# Altium footprint library Capacitor_SMD.PcbLib: 103 footprints (part 3 of 7)
Each footprint in its own frame and in the unit in brackets; x right, y up, seen from the top. Pads: shape width x height; smd on the part's side, far side on the other; paste and mask are expansions set on the pad; w line width, h text height; cw(c..) or ccw(c..) is an arc to the next point about the centre after c.
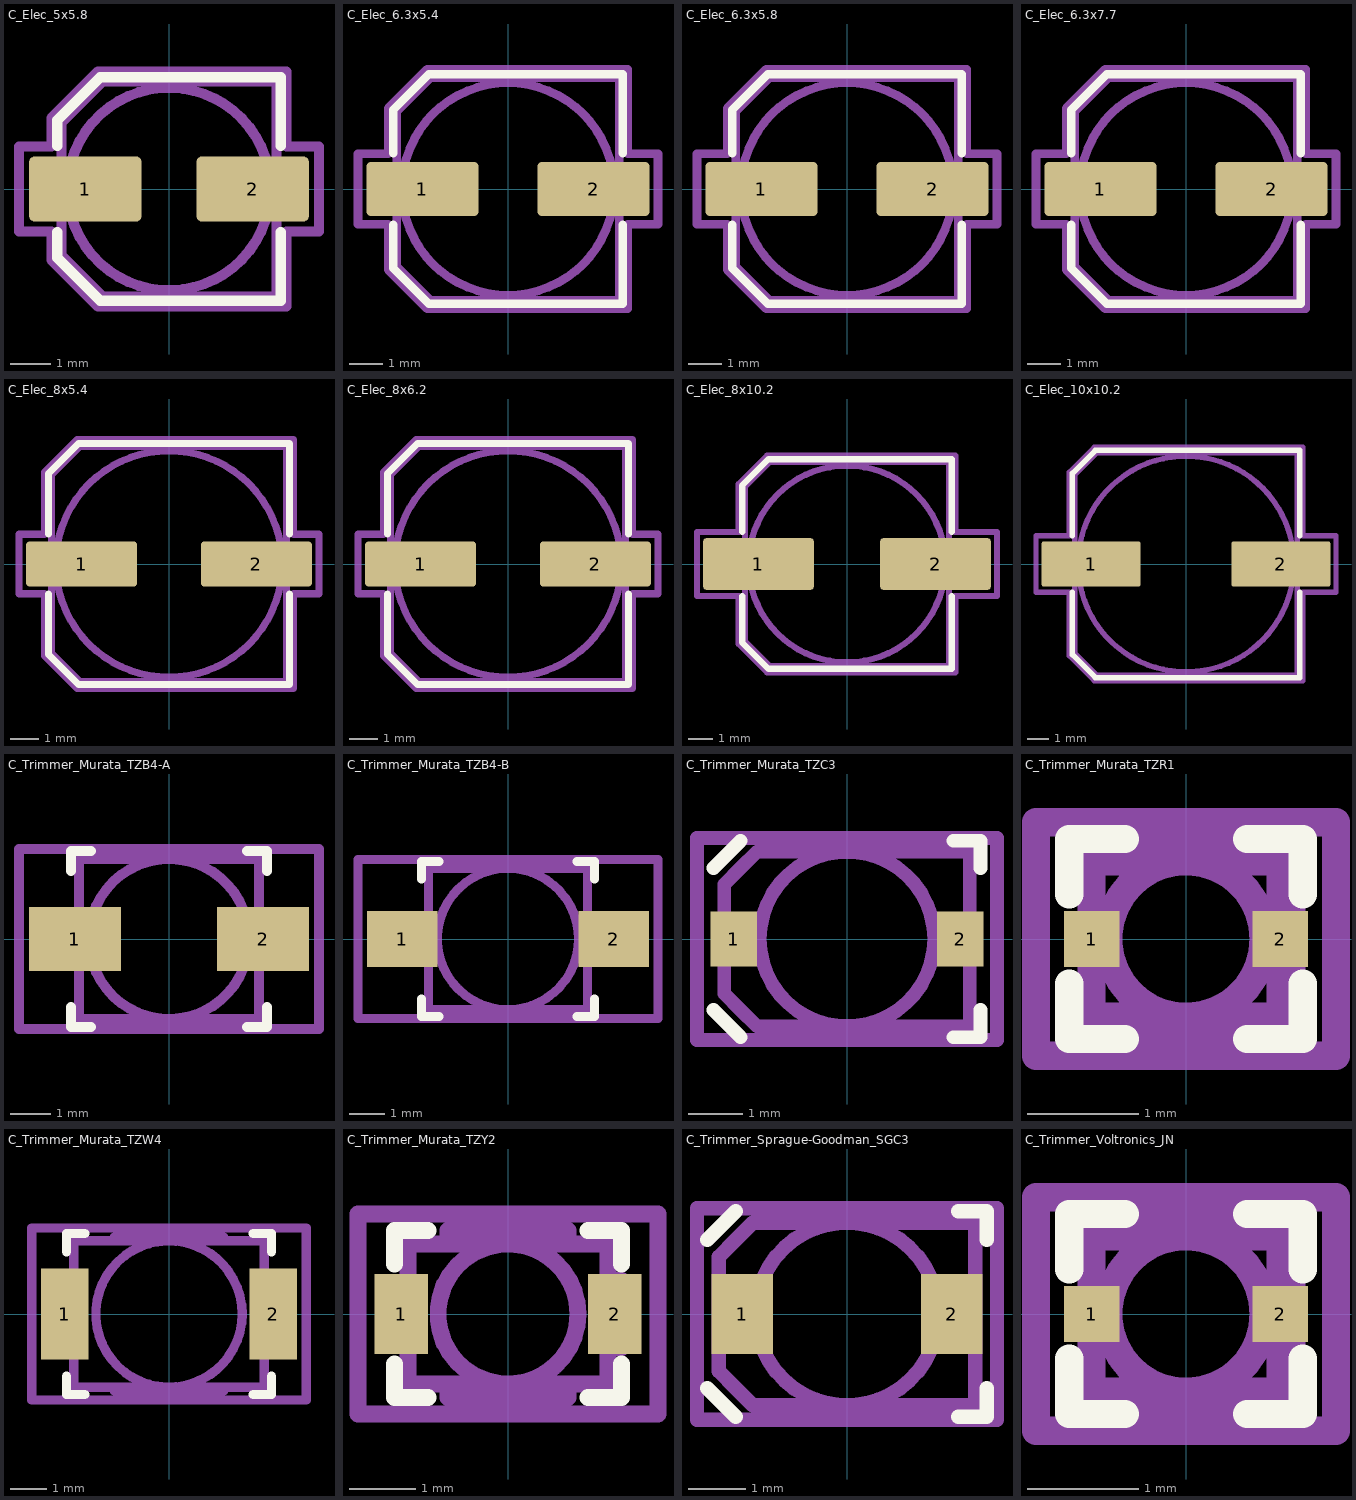
[diagram p2: the footprints below, top view; thin cyan lines are the x and y axes]

## C_Elec_5x5.8 [mm]
pads (2):
  rrect16% 2.775x1.6 smd: 1(-2.063,0) 2(2.063,0)
F.SilkS:
  lines w0.254: -2.76,-1.06 -2.76,-1.696 -1.696,-2.76 2.76,-2.76 2.76,-1.06 ; -2.76,1.06 -2.76,1.696 -1.696,2.76 2.76,2.76 2.76,1.06
F.CrtYd:
  lines w0.254: -3.7,-1.05 -3.7,1.05 -2.9,1.05 -2.9,1.75 -1.75,2.9 2.9,2.9 2.9,1.05 3.7,1.05 3.7,-1.05 2.9,-1.05 2.9,-2.9 -1.75,-2.9 -2.9,-1.75 -2.9,-1.05 -3.7,-1.05
F.Fab:
  circle w0.254: c0,0 r2.5
  lines w0.254: -2.65,-1.65 -2.65,1.65 -1.65,2.65 2.65,2.65 2.65,-2.65 -1.65,-2.65 -2.65,-1.65
  text "'.Designator'" at -4.047,-0.84 h1

## C_Elec_6.3x5.4 [mm]
pads (2):
  rrect16% 3.325x1.6 smd: 1(-2.538,0) 2(2.538,0)
F.SilkS:
  lines w0.254: -3.41,-1.06 -3.41,-2.346 -2.346,-3.41 3.41,-3.41 3.41,-1.06 ; -3.41,1.06 -3.41,2.346 -2.346,3.41 3.41,3.41 3.41,1.06
F.CrtYd:
  lines w0.254: -4.45,-1.05 -4.45,1.05 -3.55,1.05 -3.55,2.4 -2.4,3.55 3.55,3.55 3.55,1.05 4.45,1.05 4.45,-1.05 3.55,-1.05 3.55,-3.55 -2.4,-3.55 -3.55,-2.4 -3.55,-1.05 -4.45,-1.05
F.Fab:
  circle w0.254: c0,0 r3.15
  lines w0.254: -3.3,-2.3 -3.3,2.3 -2.3,3.3 3.3,3.3 3.3,-3.3 -2.3,-3.3 -3.3,-2.3
  text "'.Designator'" at -4.047,-0.84 h1

## C_Elec_6.3x5.8 [mm]
pads (2):
  rrect16% 3.325x1.6 smd: 1(-2.538,0) 2(2.538,0)
F.SilkS:
  lines w0.254: -3.41,-1.06 -3.41,-2.346 -2.346,-3.41 3.41,-3.41 3.41,-1.06 ; -3.41,1.06 -3.41,2.346 -2.346,3.41 3.41,3.41 3.41,1.06
F.CrtYd:
  lines w0.254: -4.45,-1.05 -4.45,1.05 -3.55,1.05 -3.55,2.4 -2.4,3.55 3.55,3.55 3.55,1.05 4.45,1.05 4.45,-1.05 3.55,-1.05 3.55,-3.55 -2.4,-3.55 -3.55,-2.4 -3.55,-1.05 -4.45,-1.05
F.Fab:
  circle w0.254: c0,0 r3.15
  lines w0.254: -3.3,-2.3 -3.3,2.3 -2.3,3.3 3.3,3.3 3.3,-3.3 -2.3,-3.3 -3.3,-2.3
  text "'.Designator'" at -4.047,-0.84 h1

## C_Elec_6.3x7.7 [mm]
pads (2):
  rrect16% 3.325x1.6 smd: 1(-2.538,0) 2(2.538,0)
F.SilkS:
  lines w0.254: -3.41,-1.06 -3.41,-2.346 -2.346,-3.41 3.41,-3.41 3.41,-1.06 ; -3.41,1.06 -3.41,2.346 -2.346,3.41 3.41,3.41 3.41,1.06
F.CrtYd:
  lines w0.254: -4.45,-1.05 -4.45,1.05 -3.55,1.05 -3.55,2.4 -2.4,3.55 3.55,3.55 3.55,1.05 4.45,1.05 4.45,-1.05 3.55,-1.05 3.55,-3.55 -2.4,-3.55 -3.55,-2.4 -3.55,-1.05 -4.45,-1.05
F.Fab:
  circle w0.254: c0,0 r3.15
  lines w0.254: -3.3,-2.3 -3.3,2.3 -2.3,3.3 3.3,3.3 3.3,-3.3 -2.3,-3.3 -3.3,-2.3
  text "'.Designator'" at -4.047,-0.84 h1

## C_Elec_8x5.4 [mm]
pads (2):
  rrect16% 3.925x1.6 smd: 1(-3.087,0) 2(3.087,0)
F.SilkS:
  lines w0.254: -4.26,-1.06 -4.26,-3.196 -3.196,-4.26 4.26,-4.26 4.26,-1.06 ; -4.26,1.06 -4.26,3.196 -3.196,4.26 4.26,4.26 4.26,1.06
F.CrtYd:
  lines w0.254: -5.3,-1.05 -5.3,1.05 -4.4,1.05 -4.4,3.25 -3.25,4.4 4.4,4.4 4.4,1.05 5.3,1.05 5.3,-1.05 4.4,-1.05 4.4,-4.4 -3.25,-4.4 -4.4,-3.25 -4.4,-1.05 -5.3,-1.05
F.Fab:
  circle w0.254: c0,0 r4
  lines w0.254: -4.15,-3.15 -4.15,3.15 -3.15,4.15 4.15,4.15 4.15,-4.15 -3.15,-4.15 -4.15,-3.15
  text "'.Designator'" at -4.047,-0.84 h1

## C_Elec_8x6.2 [mm]
pads (2):
  rrect16% 3.925x1.6 smd: 1(-3.087,0) 2(3.087,0)
F.SilkS:
  lines w0.254: -4.26,-1.06 -4.26,-3.196 -3.196,-4.26 4.26,-4.26 4.26,-1.06 ; -4.26,1.06 -4.26,3.196 -3.196,4.26 4.26,4.26 4.26,1.06
F.CrtYd:
  lines w0.254: -5.3,-1.05 -5.3,1.05 -4.4,1.05 -4.4,3.25 -3.25,4.4 4.4,4.4 4.4,1.05 5.3,1.05 5.3,-1.05 4.4,-1.05 4.4,-4.4 -3.25,-4.4 -4.4,-3.25 -4.4,-1.05 -5.3,-1.05
F.Fab:
  circle w0.254: c0,0 r4
  lines w0.254: -4.15,-3.15 -4.15,3.15 -3.15,4.15 4.15,4.15 4.15,-4.15 -3.15,-4.15 -4.15,-3.15
  text "'.Designator'" at -4.047,-0.84 h1

## C_Elec_8x10.2 [mm]
pads (2):
  rrect12% 4.5x2.1 smd: 1(-3.6,0) 2(3.6,0)
F.SilkS:
  lines w0.254: -4.26,-1.31 -4.26,-3.196 -3.196,-4.26 4.26,-4.26 4.26,-1.31 ; -4.26,1.31 -4.26,3.196 -3.196,4.26 4.26,4.26 4.26,1.31
F.CrtYd:
  lines w0.254: -6.1,-1.3 -6.1,1.3 -4.4,1.3 -4.4,3.25 -3.25,4.4 4.4,4.4 4.4,1.3 6.1,1.3 6.1,-1.3 4.4,-1.3 4.4,-4.4 -3.25,-4.4 -4.4,-3.25 -4.4,-1.3 -6.1,-1.3
F.Fab:
  circle w0.254: c0,0 r4
  lines w0.254: -4.15,-3.15 -4.15,3.15 -3.15,4.15 4.15,4.15 4.15,-4.15 -3.15,-4.15 -4.15,-3.15
  text "'.Designator'" at -4.047,-0.84 h1

## C_Elec_10x10.2 [mm]
pads (2):
  rrect12% 4.6x2.1 smd: 1(-4.4,0) 2(4.4,0)
F.SilkS:
  lines w0.254: -5.26,-1.31 -5.26,-4.196 -4.196,-5.26 5.26,-5.26 5.26,-1.31 ; -5.26,1.31 -5.26,4.196 -4.196,5.26 5.26,5.26 5.26,1.31
F.CrtYd:
  lines w0.254: -6.95,-1.3 -6.95,1.3 -5.4,1.3 -5.4,4.25 -4.25,5.4 5.4,5.4 5.4,1.3 6.95,1.3 6.95,-1.3 5.4,-1.3 5.4,-5.4 -4.25,-5.4 -5.4,-4.25 -5.4,-1.3 -6.95,-1.3
F.Fab:
  circle w0.254: c0,0 r5
  lines w0.254: -5.15,-4.15 -5.15,4.15 -4.15,5.15 5.15,5.15 5.15,-5.15 -4.15,-5.15 -5.15,-4.15
  text "'.Designator'" at -4.047,-0.84 h1

## C_Trimmer_Murata_TZB4-A [mm]
pads (2):
  rect 2.3x1.6 smd: 1(-2.35,0) 2(2.35,0)
F.SilkS:
  lines w0.254: -2.45,-1.7 -2.45,-2.2 -1.95,-2.2 ; -2.45,1.7 -2.45,2.2 -1.95,2.2 ; 1.95,-2.2 2.45,-2.2 2.45,-1.7 ; 1.95,2.2 2.45,2.2 2.45,1.7
F.CrtYd:
  lines w0.254: -3.75,-2.25 -3.75,2.25 3.75,2.25 3.75,-2.25 -3.75,-2.25
F.Fab:
  circle w0.254: c0,0 r2
  lines w0.254: -2.25,-0.6 -2.5,-0.6 -2.5,0.6 -2.25,0.6 ; 2.25,-0.6 2.5,-0.6 2.5,0.6 2.25,0.6 ; -2.25,-2 -2.25,-1.99 -2.25,1.99 -2.25,2 -2.24,2 2.24,2 2.25,2 2.25,1.99 2.25,-1.99 2.25,-2 2.24,-2 -2.24,-2 -2.25,-2
  text "'.Designator'" at -1.998,-0.395 h0.5

## C_Trimmer_Murata_TZB4-B [mm]
pads (2):
  rect 2x1.6 smd: 1(-3,0) 2(3,0)
F.SilkS:
  lines w0.254: -2.45,-1.7 -2.45,-2.2 -1.95,-2.2 ; -2.45,1.7 -2.45,2.2 -1.95,2.2 ; 1.95,-2.2 2.45,-2.2 2.45,-1.7 ; 1.95,2.2 2.45,2.2 2.45,1.7
F.CrtYd:
  lines w0.254: -4.25,-2.25 -4.25,2.25 4.25,2.25 4.25,-2.25 -4.25,-2.25
F.Fab:
  circle w0.254: c0,0 r2
  lines w0.254: -2.25,-0.6 -3.5,-0.6 -3.5,0.6 -2.25,0.6 ; 2.25,-0.6 3.5,-0.6 3.5,0.6 2.25,0.6 ; -2.25,-2 -2.25,-1.99 -2.25,1.99 -2.25,2 -2.24,2 2.24,2 2.25,2 2.25,1.99 2.25,-1.99 2.25,-2 2.24,-2 -2.24,-2 -2.25,-2
  text "'.Designator'" at -1.998,-0.395 h0.5

## C_Trimmer_Murata_TZC3 [mm]
pads (2):
  rect 0.85x1 smd: 1(-2.075,0) 2(2.075,0)
F.SilkS:
  lines w0.254: -2.45,-1.3 -1.95,-1.8 ; -2.45,1.3 -1.95,1.8 ; 1.95,-1.8 2.45,-1.8 2.45,-1.3 ; 1.95,1.8 2.45,1.8 2.45,1.3
F.CrtYd:
  lines w0.254: -2.75,-1.85 -2.75,1.85 2.75,1.85 2.75,-1.85 -2.75,-1.85
F.Fab:
  circle w0.254: c0,0 r1.6
  lines w0.254: -2.25,-1 -2.25,1 -1.95,1.3 -1.65,1.6 2.24,1.6 2.25,1.6 2.25,1.59 2.25,-1.59 2.25,-1.6 2.24,-1.6 -1.65,-1.6 -1.95,-1.3 -2.25,-1
  text "'.Designator'" at -1.998,-0.395 h0.5

## C_Trimmer_Murata_TZR1 [mm]
pads (2):
  rect 0.5x0.5 smd: 1(-0.85,0) 2(0.85,0)
F.SilkS:
  lines w0.254: -1.05,-0.4 -1.05,-0.9 -0.55,-0.9 ; -1.05,0.4 -1.05,0.9 -0.55,0.9 ; 0.55,-0.9 1.05,-0.9 1.05,-0.4 ; 0.55,0.9 1.05,0.9 1.05,0.4
F.CrtYd:
  lines w0.254: -1.35,-1.05 -1.35,1.05 1.35,1.05 1.35,-1.05 -1.35,-1.05
F.Fab:
  circle w0.254: c0,0 r0.7
  lines w0.254: -0.45,-0.7 -0.45,-0.8 0.45,-0.8 0.45,-0.7 ; -0.45,0.7 -0.45,0.8 0.45,0.8 0.45,0.7 ; 0.85,-0.3 0.95,-0.3 0.95,0.3 0.85,0.3 ; -0.85,-0.7 -0.85,-0.69 -0.85,0.69 -0.85,0.7 -0.84,0.7 0.84,0.7 0.85,0.7 0.85,0.69 0.85,-0.69 0.85,-0.7 0.84,-0.7 -0.84,-0.7 -0.85,-0.7
  text "'.Designator'" at -1.998,-0.395 h0.5

## C_Trimmer_Murata_TZW4 [mm]
pads (2):
  rect 1.3x2.5 smd: 1(-2.85,0) 2(2.85,0)
F.SilkS:
  lines w0.254: -2.8,-1.7 -2.8,-2.2 -2.3,-2.2 ; -2.8,1.7 -2.8,2.2 -2.3,2.2 ; 2.3,-2.2 2.8,-2.2 2.8,-1.7 ; 2.3,2.2 2.8,2.2 2.8,1.7
F.CrtYd:
  lines w0.254: -3.75,-2.35 -3.75,2.35 3.75,2.35 3.75,-2.35 -3.75,-2.35
F.Fab:
  circle w0.254: c0,0 r2
  lines w0.254: -1.5,-2 -1.5,-2.1 1.5,-2.1 1.5,-2 ; -1.5,2 -1.5,2.1 1.5,2.1 1.5,2 ; -2.6,-2 -2.6,-1.99 -2.6,1.99 -2.6,2 -2.59,2 2.59,2 2.6,2 2.6,1.99 2.6,-1.99 2.6,-2 2.59,-2 -2.59,-2 -2.6,-2
  text "'.Designator'" at -1.998,-0.395 h0.5

## C_Trimmer_Murata_TZY2 [mm]
pads (2):
  rect 0.8x1.2 smd: 1(-1.6,0) 2(1.6,0)
F.SilkS:
  lines w0.254: -1.7,-0.75 -1.7,-1.25 -1.2,-1.25 ; -1.7,0.75 -1.7,1.25 -1.2,1.25 ; 1.2,-1.25 1.7,-1.25 1.7,-0.75 ; 1.2,1.25 1.7,1.25 1.7,0.75
F.CrtYd:
  lines w0.254: -2.25,-1.5 -2.25,1.5 2.25,1.5 2.25,-1.5 -2.25,-1.5
F.Fab:
  circle w0.254: c0,0 r1.05
  lines w0.254: -0.9,-1.05 -0.9,-1.25 0.9,-1.25 0.9,-1.05 ; -0.9,1.05 -0.9,1.25 0.9,1.25 0.9,1.05 ; 1.5,-0.5 1.7,-0.5 1.7,0.5 1.5,0.5 ; -1.5,-1.05 -1.5,-1.04 -1.5,1.04 -1.5,1.05 -1.49,1.05 1.49,1.05 1.5,1.05 1.5,1.04 1.5,-1.04 1.5,-1.05 1.49,-1.05 -1.49,-1.05 -1.5,-1.05
  text "'.Designator'" at -1.998,-0.395 h0.5

## C_Trimmer_Sprague-Goodman_SGC3 [mm]
pads (2):
  rect 1.075x1.4 smd: 1(-1.837,0) 2(1.837,0)
F.SilkS:
  lines w0.254: -2.45,-1.3 -1.95,-1.8 ; -2.45,1.3 -1.95,1.8 ; 1.95,-1.8 2.45,-1.8 2.45,-1.3 ; 1.95,1.8 2.45,1.8 2.45,1.3
F.CrtYd:
  lines w0.254: -2.63,-1.85 -2.63,1.85 2.63,1.85 2.63,-1.85 -2.63,-1.85
F.Fab:
  circle w0.254: c0,0 r1.6
  lines w0.254: -2.25,-1 -2.25,1 -1.95,1.3 -1.65,1.6 2.24,1.6 2.25,1.6 2.25,1.59 2.25,-1.59 2.25,-1.6 2.24,-1.6 -1.65,-1.6 -1.95,-1.3 -2.25,-1
  text "'.Designator'" at -1.998,-0.395 h0.5

## C_Trimmer_Voltronics_JN [mm]
pads (2):
  rect 0.5x0.5 smd: 1(-0.85,0) 2(0.85,0)
F.SilkS:
  lines w0.254: -1.05,-0.4 -1.05,-0.9 -0.55,-0.9 ; -1.05,0.4 -1.05,0.9 -0.55,0.9 ; 0.55,-0.9 1.05,-0.9 1.05,-0.4 ; 0.55,0.9 1.05,0.9 1.05,0.4
F.CrtYd:
  lines w0.254: -1.35,-1.05 -1.35,1.05 1.35,1.05 1.35,-1.05 -1.35,-1.05
F.Fab:
  circle w0.254: c0,0 r0.7
  lines w0.254: -0.45,-0.7 -0.45,-0.8 0.45,-0.8 0.45,-0.7 ; -0.45,0.7 -0.45,0.8 0.45,0.8 0.45,0.7 ; 0.85,-0.3 0.95,-0.3 0.95,0.3 0.85,0.3 ; -0.85,-0.7 -0.85,-0.69 -0.85,0.69 -0.85,0.7 -0.84,0.7 0.84,0.7 0.85,0.7 0.85,0.69 0.85,-0.69 0.85,-0.7 0.84,-0.7 -0.84,-0.7 -0.85,-0.7
  text "'.Designator'" at -1.998,-0.395 h0.5